# Altium schematic symbol library LED_Nixie_Display.SchLib: 1 symbol
Pins are listed as number, name and electrical type; pins without a type are passive.

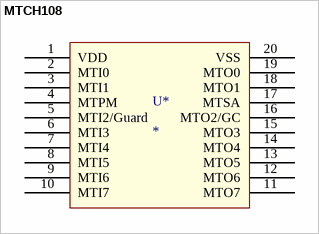
[diagram p0: symbol MTCH108]

## MTCH108
designator U*
ComponentLink1Description: Datasheet; ComponentLink1URL: http://ww1.microchip.com/downloads/en/DeviceDoc/40001793C.pdf
footprint MTCH-108 SSOP
pins: 1 VDD, 2 MTI0, 3 MTI1, 4 MTPM, 5 MTI2/Guard, 6 MTI3, 7 MTI4, 8 MTI5, 9 MTI6, 10 MTI7, 11 MTO7, 12 MTO6, 13 MTO5, 14 MTO4, 15 MTO3, 16 MTO2/GC, 17 MTSA, 18 MTO1, 19 MTO0, 20 VSS